# Altium schematic symbol library 7Segment4Digit.SchLib: 1 symbol
Pins are listed as number, name and electrical type; pins without a type are passive.

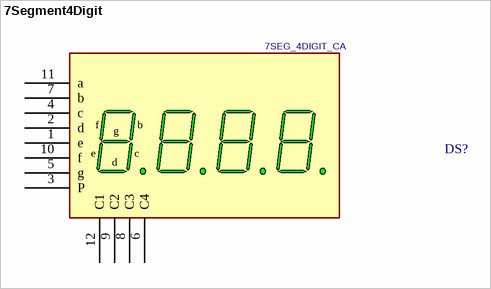
[diagram p0: symbol 7Segment4Digit]

## 7Segment4Digit
designator DS?  value 7SEG_4DIGIT_CA  (hidden comment: 7Segment4Digit)
7SEGMENT, 4DIGIT, common Anode 0.28"; MANF_P#: -
footprint 7SEGX4_12_03INCH (7SEG 4DIGIT ,0.28", 12pin Pitch: 2.54mm, 10.2X32mm)
pins: 1 e, 2 d, 3 P, 4 c, 5 g, 6 C4, 7 b, 8 C3, 9 C2, 10 f, 11 a, 12 C1